# EAGLE library part ROCO8PIN (library wolfi)
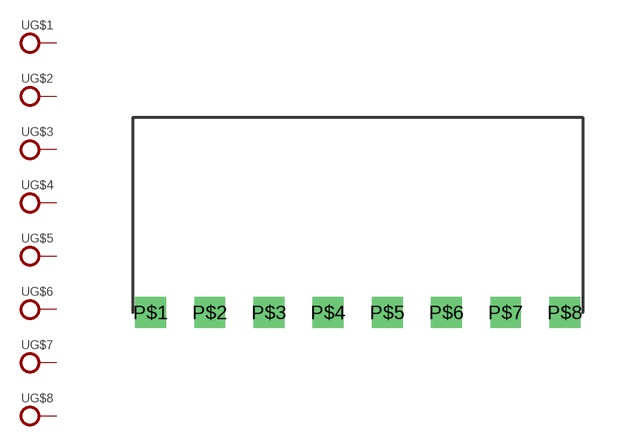
[diagram p14: symbol with the pads of ROCO8PIN; footprint ROCO8PIN]

Designator prefix -; gates G$1=PIN G$2=PIN G$3=PIN G$4=PIN G$5=PIN G$6=PIN G$7=PIN G$8=PIN

## ROCO8PIND  [ROCO8PIN]
P$1  G$1:X  pas
P$2  G$2:X  pas
P$3  G$3:X  pas
P$4  G$4:X  pas
P$5  G$5:X  pas
P$6  G$6:X  pas
P$7  G$7:X  pas
P$8  G$8:X  pas

## Footprint ROCO8PIN (pad centres in mm)
drill 0.813 square: P$1 -7.62,-7.62; P$2 -5.08,-7.62; P$3 -2.54,-7.62; P$4 0,-7.62; P$5 2.54,-7.62; P$6 5.08,-7.62; P$7 7.62,-7.62; P$8 10.16,-7.62